# EAGLE library part CAT16-*J8? (library Resistor)
Resistor Array 8 330 Ohm 2506 Reference: Datasheet <https://www.bourns.com/docs/Product-Datasheets/CATCAY.pdf>
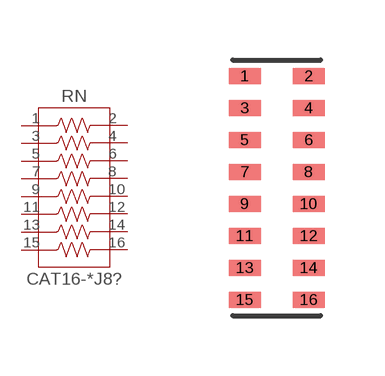
[diagram p0: symbol with the pads of RN-8-2406; footprint RN-8-2406]

Designator prefix RN

## CAT16-331J8LF (CATEGORY: Resistor Networks; DATASHEET: https://www.bourns.com/docs/Product-Datasheets/CATCAY.pdf; DESCRIPTION: 330 Ohm ±5% 62.5mW Power Per Element Isolated 8 Resistor Network/Array ±200ppm/°C 2506 & Concave & Long Side Terminals; MANUFACTURER: Bourns Inc.; MPN: CAT16-331J8LF; OPERATING_TEMPERATURE: -55°C ~ 125°C; PACKAGE_SIZE: 2406; PACKAGE_TYPE: Surface Mount; PART_STATUS: Obsolete; ROHS: Compliant; SERIES: CAT16; SUBCATEGORY: Resistor Arrays; TEMPERATURE_COEFFICIENT: ±200ppm/°C; THERMALLOSS: 0.0625 W; TOLERANCE: ±5%; TYPE: Isolated)  [RN-8-2406]
1  1  pas
2  2  pas
3  3  pas
4  4  pas
5  5  pas
6  6  pas
7  7  pas
8  8  pas
9  9  pas
10  10  pas
11  11  pas
12  12  pas
13  13  pas
14  14  pas
15  15  pas
16  16  pas

## Footprint RN-8-2406 (pad centres in mm)
2506 Concave Long Side Terminals
smd 0.8 x 0.4: 1 -0.8,2.8; 2 0.8,2.8; 3 -0.8,2; 4 0.8,2; 5 -0.8,1.2; 6 0.8,1.2; 7 -0.8,0.4; 8 0.8,0.4; 9 -0.8,-0.4; 10 0.8,-0.4; 11 -0.8,-1.2; 12 0.8,-1.2; 13 -0.8,-2; 14 0.8,-2; 15 -0.8,-2.8; 16 0.8,-2.8